# Altium footprint library Capacitor.PcbLib: 7 footprints
Each footprint in its own frame and in the unit in brackets; x right, y up, seen from the top. Pads: shape width x height; smd on the part's side, far side on the other; paste and mask are expansions set on the pad; w line width, h text height; cw(c..) or ccw(c..) is an arc to the next point about the centre after c.
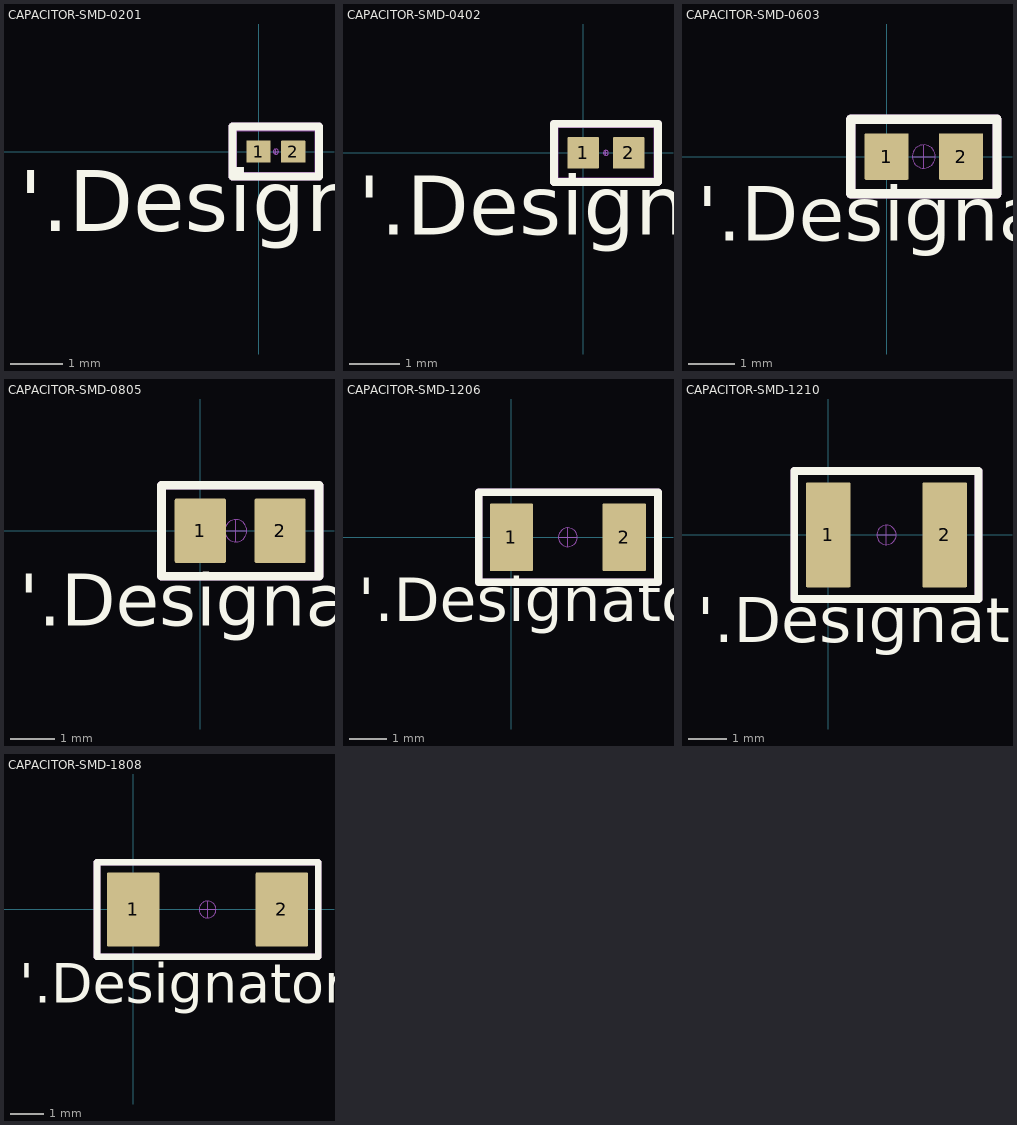
[diagram p0: the footprints below, top view; thin cyan lines are the x and y axes]

## CAPACITOR-SMD-0201 [mm] "Capacitor SMD 0201 (Metric 0603)"
pads (2):
  rrect5% 0.46x0.42 smd mask+0.05: 1(0,0) 2(0.66,0)
Top Overlay:
  lines w0.152: -0.5,-0.475 -0.5,0.475 1.15,0.475 1.15,-0.475 -0.5,-0.475
  text "'.Designator'" at -4.559,-1.898 h2
Top Component Outline:
  lines w0.152: -0.5,-0.475 -0.5,0.475 1.15,0.475 1.15,-0.475 -0.5,-0.475
  text "'.Comment'" at -1.896,-0.302 h1
Top Courtyard:
  lines w0.025: -0.42,-0.4 1.08,-0.4 1.08,0.4 -0.42,0.4 -0.42,-0.4
Top Component Center:
  circle w0.005: c0.33,0 r0.05
  lines w0.005: 0.28,0 0.33,0 ; 0.33,-0.05 0.33,0 ; 0.33,0.05 0.33,0 ; 0.38,0 0.33,0
Top Designator:
  text "'.Designator'" at -2.112,-0.224 h1
Top Assembly:
  lines w0.152: -0.5,-0.475 -0.5,0.475 1.15,0.475 1.15,-0.475 -0.5,-0.475
  text "'.Designator'" at -2.112,-0.224 h1
3D body "CAPACITOR-SMD-0201.step": height 0.3, standoff 0, extent 0.03,-0.15 0.63,0.15

## CAPACITOR-SMD-0402 [mm] "Capacitor SMD 0402 (Metric 1005)"
pads (2):
  rrect5% 0.62x0.62 smd mask+0.05: 1(0,0) 2(0.9,0)
Top Overlay:
  lines w0.152: -0.575,-0.575 1.475,-0.575 1.475,0.575 -0.575,0.575 -0.575,-0.575
  text "'.Designator'" at -4.434,-1.998 h2
Top Component Outline:
  lines w0.152: -0.575,-0.575 1.475,-0.575 1.475,0.575 -0.575,0.575 -0.575,-0.575
  text "'.Comment'" at -1.776,-0.302 h1
Top Courtyard:
  lines w0.025: -0.5,-0.5 -0.5,0.5 1.4,0.5 1.4,-0.5 -0.5,-0.5
Top Component Center:
  circle w0.005: c0.45,0 r0.05
  lines w0.005: 0.4,0 0.45,0 ; 0.45,-0.05 0.45,0 ; 0.45,0.05 0.45,0 ; 0.5,0 0.45,0
Top Designator:
  text "'.Designator'" at -1.992,-0.224 h1
Top Assembly:
  lines w0.152: -0.575,-0.575 1.475,-0.575 1.475,0.575 -0.575,0.575 -0.575,-0.575
  text "'.Designator'" at -1.992,-0.224 h1
3D body "CAPACITOR-SMD-0402.step": height 0.5, standoff 0, extent -0.05,-0.25 0.95,0.25

## CAPACITOR-SMD-0603 [mm] "Capacitor SMD 0603 (Metric 1608)"
pads (2):
  rrect5% 0.95x1 smd mask+0.05: 1(0,0) 2(1.6,0)
Top Overlay:
  lines w0.2: -0.775,-0.8 2.375,-0.8 2.375,0.8 -0.775,0.8 -0.775,-0.8
  text "'.Designator'" at -4.084,-2.198 h2
Top Component Outline:
  lines w0.2: -0.775,-0.8 -0.775,0.8 2.375,0.8 2.375,-0.8 -0.775,-0.8
  text "'.Comment'" at -1.426,-0.577 h1
Top Courtyard:
  lines w0.05: -0.75,-0.75 2.35,-0.75 2.35,0.75 -0.75,0.75 -0.75,-0.75
Top Component Center:
  circle w0.012: c0.8,0 r0.25
  lines w0.012: 0.55,0 0.8,0 ; 0.8,-0.25 0.8,0 ; 0.8,0.25 0.8,0 ; 1.05,0 0.8,0
Top Designator:
  text "'.Designator'" at -1.642,-0.224 h1
Top Assembly:
  lines w0.2: -0.775,-0.8 2.375,-0.8 2.375,0.8 -0.775,0.8 -0.775,-0.8
  text "'.Designator'" at -1.642,-0.224 h1
3D body "CAPACITOR-SMD-0603.step": height 0.8, standoff 0, extent 0,-0.4 1.6,0.4

## CAPACITOR-SMD-0805 [mm] "Capacitor SMD 0805 (Metric 2012)"
pads (2):
  rrect5% 1.15x1.45 smd mask+0.05: 1(0,0) 2(1.8,0)
Top Overlay:
  lines w0.2: -0.875,-1.025 -0.875,1.025 2.675,1.025 2.675,-1.025 -0.875,-1.025
  text "'.Designator'" at -4.084,-2.523 h2
Top Component Outline:
  lines w0.2: -0.875,-1.025 2.675,-1.025 2.675,1.025 -0.875,1.025 -0.875,-1.025
  text "'.Comment'" at -1.426,-0.577 h1
Top Courtyard:
  lines w0.05: -0.85,-1 -0.85,1 2.65,1 2.65,-1 -0.85,-1
Top Component Center:
  circle w0.012: c0.8,0 r0.25
  lines w0.012: 0.55,0 0.8,0 ; 0.8,-0.25 0.8,0 ; 0.8,0.25 0.8,0 ; 1.05,0 0.8,0
Top Designator:
  text "'.Designator'" at -1.642,-0.224 h1
Top Assembly:
  lines w0.2: -0.875,-1.025 -0.875,1.025 2.675,1.025 2.675,-1.025 -0.875,-1.025
  text "'.Designator'" at -1.642,-0.224 h1
3D body "CAPACITOR-SMD-0805.step": height 0.6, standoff 0, extent -0.1,-0.625 1.9,0.625

## CAPACITOR-SMD-1206 [mm] "Capacitor SMD 1206 (Metric 3216)"
pads (2):
  rrect5% 1.15x1.8 smd mask+0.05: 1(0,0) 2(3,0)
Top Overlay:
  lines w0.2: -0.875,-1.2 3.9,-1.2 3.9,1.2 -0.875,1.2 -0.875,-1.2
  text "'.Designator'" at -4.084,-2.623 h2
Top Component Outline:
  lines w0.2: -0.875,-1.2 -0.875,1.2 3.9,1.2 3.9,-1.2 -0.875,-1.2
  text "'.Comment'" at -0.726,-0.827 h1
Top Courtyard:
  lines w0.05: -0.85,-1.15 -0.85,1.15 3.85,1.15 3.85,-1.15 -0.85,-1.15
Top Component Center:
  circle w0.012: c1.5,0 r0.25
  lines w0.012: 1.25,0 1.5,0 ; 1.5,-0.25 1.5,0 ; 1.5,0.25 1.5,0 ; 1.75,0 1.5,0
Top Designator:
  text "'.Designator'" at -0.942,-0.224 h1
Top Assembly:
  lines w0.2: -0.875,-1.2 3.9,-1.2 3.9,1.2 -0.875,1.2 -0.875,-1.2
  text "'.Designator'" at -0.942,-0.224 h1
3D body "CAPACITOR-SMD-1206.step": height 0.78, standoff 0, extent -0.1,-0.8 3.1,0.8

## CAPACITOR-SMD-1210 [mm] "Capacitor SMD 1210 (Metric 3225)"
pads (2):
  rrect5% 1.15x2.7 smd mask+0.05: 1(0,0) 2(3,0)
Top Overlay:
  lines w0.2: -0.875,-1.65 -0.875,1.65 3.875,1.65 3.875,-1.65 -0.875,-1.65
  text "'.Designator'" at -3.384,-3.148 h2
Top Component Outline:
  lines w0.2: -0.875,-1.65 3.875,-1.65 3.875,1.65 -0.875,1.65 -0.875,-1.65
  text "'.Comment'" at -0.726,-1.402 h1
Top Courtyard:
  lines w0.05: -0.85,-1.6 -0.85,1.6 3.85,1.6 3.85,-1.6 -0.85,-1.6
Top Component Center:
  circle w0.012: c1.5,0 r0.25
  lines w0.012: 1.25,0 1.5,0 ; 1.5,-0.25 1.5,0 ; 1.5,0.25 1.5,0 ; 1.75,0 1.5,0
Top Designator:
  text "'.Designator'" at -0.942,-0.224 h1
Top Assembly:
  lines w0.2: -0.875,-1.65 -0.875,1.65 3.875,1.65 3.875,-1.65 -0.875,-1.65
  text "'.Designator'" at -0.942,-0.224 h1
3D body "CAPACITOR-SMD-1210.step": height 0.78, standoff 0, extent -0.1,-1.25 3.1,1.25

## CAPACITOR-SMD-1808 [mm] "Capacitor SMD 1808 (Metric 4520)"
pads (2):
  rrect5% 1.55x2.2 smd mask+0.05: 1(0,0) 2(4.4,0)
Top Overlay:
  lines w0.2: -1.075,-1.4 5.475,-1.4 5.475,1.4 -1.075,1.4 -1.075,-1.4
  text "'.Designator'" at -3.384,-3.148 h2
Top Component Outline:
  lines w0.2: -1.075,-1.4 -1.075,1.4 5.475,1.4 5.475,-1.4 -1.075,-1.4
  text "'.Comment'" at -0.026,-1.177 h1
Top Courtyard:
  lines w0.05: -1.05,-1.35 -1.05,1.35 5.45,1.35 5.45,-1.35 -1.05,-1.35
Top Component Center:
  circle w0.012: c2.2,0 r0.25
  lines w0.012: 1.95,0 2.2,0 ; 2.2,-0.25 2.2,0 ; 2.2,0.25 2.2,0 ; 2.45,0 2.2,0
Top Designator:
  text "'.Designator'" at -0.242,-0.224 h1
Top Assembly:
  lines w0.2: -1.075,-1.4 5.475,-1.4 5.475,1.4 -1.075,1.4 -1.075,-1.4
  text "'.Designator'" at -0.242,-0.224 h1
3D body "CAPACITOR-SMD-1808.step": height 0.9, standoff 0, extent -0.05,-1 4.45,1